# EAGLE library part SN74LV14A_HEX_SHMITT (library DMC2700)
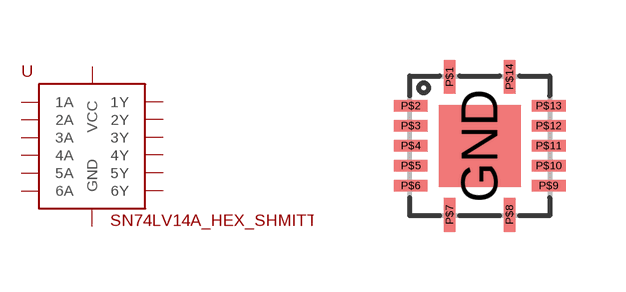
[diagram p1: symbol with the pads of S-PVFQN-N14; footprint S-PVFQN-N14]

Designator prefix U

## SN74LV14A_HEX_SHMITT  [S-PVFQN-N14]
GND  GND  sup
P$1  1A
P$2  1Y
P$3  2A
P$4  2Y
P$5  3A
P$6  3Y
P$7  GND  sup
P$8  4Y
P$9  4A
P$10  5Y
P$11  5A
P$12  6Y
P$13  6A
P$14  VCC  pwr

## Footprint S-PVFQN-N14 (pad centres in mm)
smd 2.05 x 2.05: GND 0,0
smd 0.28 x 0.85: P$1 -0.75,1.725; P$7 -0.75,-1.725; P$8 0.75,-1.725; P$14 0.75,1.725
smd 0.85 x 0.28: P$2 -1.725,1; P$3 -1.725,0.5; P$4 -1.725,0; P$5 -1.725,-0.5; P$6 -1.725,-1; P$9 1.725,-1; P$10 1.725,-0.5; P$11 1.725,0; P$12 1.725,0.5; P$13 1.725,1